# EAGLE library part CP-2102-USB (library Recon)
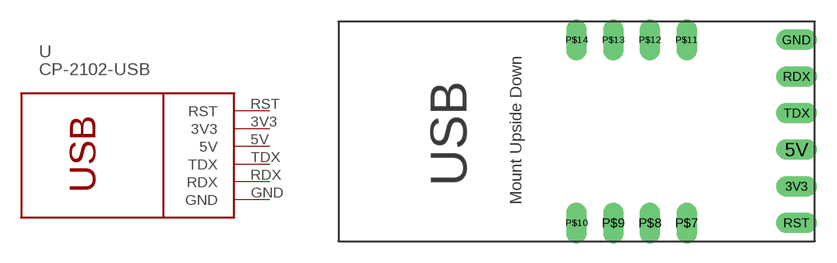
[diagram p8: symbol with the pads of CP2102_MODULE; footprint CP2102_MODULE]

Designator prefix -

## CP-2102-USB  [CP2102_MODULE]
3V3  3V3
5V  5V
GND  GND
RDX  RDX
RST  RST
TDX  TDX

## Footprint CP2102_MODULE (pad centres in mm)
drill 0.914 long: 3V3 0,2.54; 5V 0,5.08; GND 0,12.7; P$7 -7.62,0; P$8 -10.16,0; P$9 -12.7,0; P$10 -15.24,0; P$11 -7.62,12.7; P$12 -10.16,12.7; P$13 -12.7,12.7; P$14 -15.24,12.7; RDX 0,10.16; RST 0,0; TDX 0,7.62